# Altium schematic symbol library MSP430G25x3.SchLib: 1 symbol
Pins are listed as number, name and electrical type; pins without a type are passive.

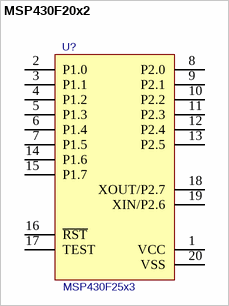
[diagram p0: symbol MSP430F20x2]

## MSP430F20x2
designator U?, comment MSP430F25x3
MSP430F20x2; Value: *
footprint PW020_N (TSOP, 20-Leads, Body 6.5x4.4mm, Pitch 0.65mm, IPC Medium Density)
pins: 1 VCC (power), 2 P1.0, 3 P1.1, 4 P1.2, 5 P1.3, 6 P1.4, 7 P1.5, 8 P2.0, 9 P2.1, 10 P2.2, 11 P2.3, 12 P2.4, 13 P2.5, 14 P1.6, 15 P1.7, 16 ~{RST}, 17 TEST, 18 XOUT/P2.7, 19 XIN/P2.6, 20 VSS (power)